# EAGLE library part LTC4012CUF-2PBF (library Deegou_IC)
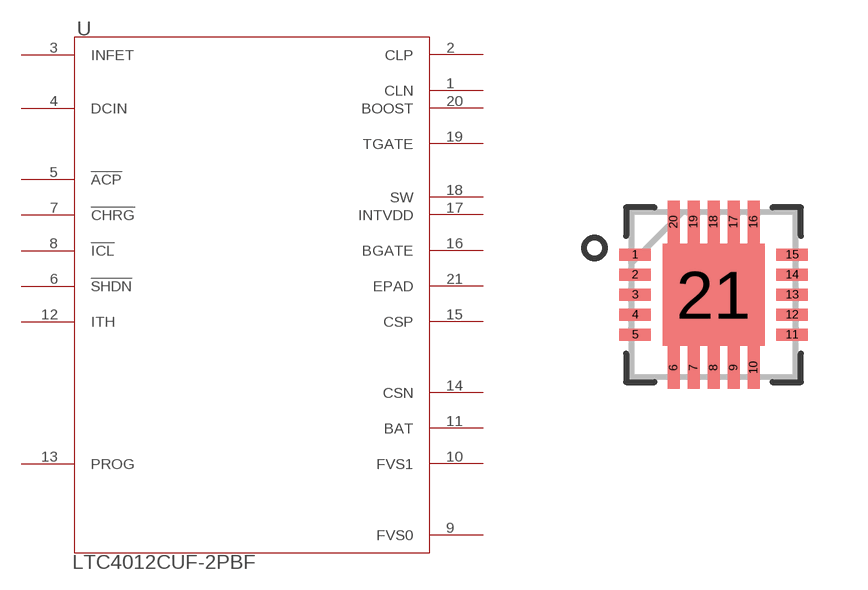
[diagram p157: symbol with the pads of QFN-20_UF; footprint QFN-20_UF]

Designator prefix U

## LTC4012CUF-2PBF (MANUFACTURER_PART_NUMBER: ltc4012cuf2#pbf; VENDOR: Linear Technology)  [QFN-20_UF]
1  CLN  in
2  CLP  in
3  INFET  out
4  DCIN  in
5  !ACP  out
6  !SHDN  in
7  !CHRG  out
8  !ICL  in
9  FVS0  in
10  FVS1  in
11  BAT  pas
12  ITH  pas
13  PROG  in
14  CSN  in
15  CSP  in
16  BGATE  out
17  INTVDD  out
18  SW  pas
19  TGATE  out
20  BOOST  in
21  EPAD  pas

## Footprint QFN-20_UF (pad centres in mm)
smd 0.785 x 0.3: 1 -1.962,1; 2 -1.962,0.5; 3 -1.962,0; 4 -1.962,-0.5; 5 -1.962,-1; 11 1.962,-1; 12 1.962,-0.5; 13 1.962,0; 14 1.962,0.5; 15 1.962,1
smd 0.3 x 1.067: 6 -1,-1.821; 7 -0.5,-1.821; 8 0,-1.821; 9 0.5,-1.821; 10 1,-1.821; 16 1,1.821; 17 0.5,1.821; 18 0,1.821; 19 -0.5,1.821; 20 -1,1.821
smd 2.55 x 2.55: 21 0,0